# Altium footprint library Grid_Aux.PcbLib: 6 footprints
Each footprint in its own frame and in the unit in brackets; x right, y up, seen from the top. Pads: shape width x height; smd on the part's side, far side on the other; paste and mask are expansions set on the pad; w line width, h text height; cw(c..) or ccw(c..) is an arc to the next point about the centre after c.
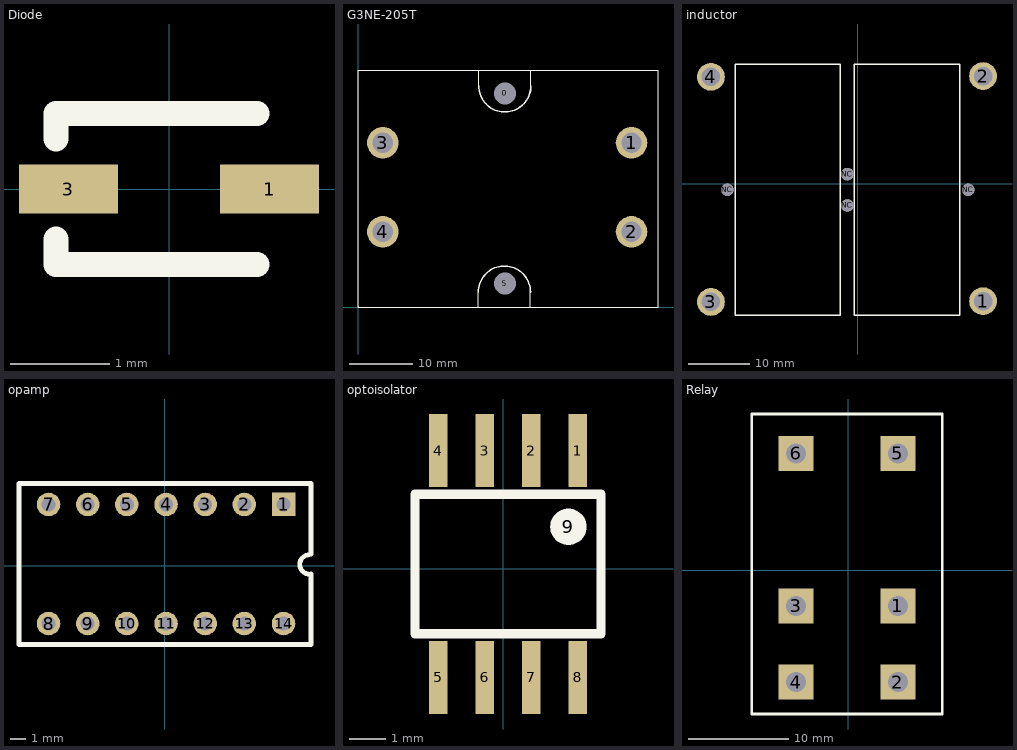
[diagram p0: the footprints below, top view; thin cyan lines are the x and y axes]

## Diode [mm]
pads (2):
  rect 1x0.5 smd: 1(1.016,0) 3(-1.016,0)
Top Overlay:
  lines w0.254: -1.143,-0.508 -1.143,-0.762 0.889,-0.762 ; -1.143,0.508 -1.143,0.762 0.889,0.762

## G3NE-205T [mm]
pads (6):
  round 1.524 hole 3.5: 0(23.25,33.85) 5(23.25,3.75)
  round 5 hole 3.24: 1(43.307,26.035) 2(43.307,11.938) 3(3.937,26.035) 4(3.937,11.938)
Top Overlay:
  lines w0.025: 0.127,0.127 0,0 ; 19.05,0 19.05,2.413 ; 19.113,35.052 19.113,37.436 ; 27.305,0 27.305,2.413 ; 27.369,35.052 27.369,37.436 ; 0,0 0,37.465 0.009,37.474 0.026,37.491 0.035,37.5 47.5,37.5 47.5,0 0,0
  lines w0.254: 19.05,2.413 cw(c23.177,2.403) 27.305,2.413 ; 19.113,35.052 ccw(c23.241,35.052) 27.369,35.052

## inductor [mm]
pads (8):
  round 4.5 hole 3: 1(20.32,-19.05) 2(20.32,17.399) 3(-23.749,-19.177) 4(-23.749,17.272)
  round 2 hole 2: NC(-21.082,-1.016) NC(-1.651,-3.556) NC(-1.651,1.524) NC(17.907,-1.016)
Top Overlay:
  lines w0.254: -19.812,-21.336 -19.812,19.304 -2.794,19.304 -2.794,-21.336 -19.812,-21.336 ; -0.508,-21.336 16.51,-21.336 16.51,19.304 -0.508,19.304 -0.508,-21.336

## opamp [mm]
pads (14):
  rect 1.5x1.5 hole 0.9: 1(7.575,3.91)
  round 1.5 hole 0.9: 2(5.075,3.91) 3(2.575,3.91) 4(0.075,3.91) 5(-2.425,3.91) 6(-4.925,3.91) 7(-7.425,3.91) 8(-7.425,-3.69) 9(-4.925,-3.69) 10(-2.425,-3.69) 11(0.075,-3.69) 12(2.575,-3.69) 13(5.075,-3.69) 14(7.575,-3.69)
Top Overlay:
  lines w0.3: 9.226,-0.535 cw(c9.226,0.08) 9.226,0.695 ; 9.333,-0.515 9.333,-5.03 -9.31,-5.03 -9.31,5.25 9.333,5.25 9.333,0.735

## optoisolator [mm]
pads (9):
  rect 0.5x2 smd: 1(2.032,3.227) 2(0.762,3.227) 3(-0.508,3.227) 4(-1.778,3.227) 5(-1.778,-2.973) 6(-0.508,-2.973) 7(0.762,-2.973) 8(2.032,-2.973)
  round 1 on Top Overlay: 9(1.778,1.143)
Top Overlay:
  lines w0.254: -2.413,-1.778 2.667,-1.778 2.667,2.032 -2.413,2.032 -2.413,-1.778

## Relay [mm]
pads (6):
  rect 3.5x3.5 hole 2: 1(4.953,-3.556) 2(4.953,-11.176) 3(-5.207,-3.556) 4(-5.207,-11.176) 5(4.953,11.684) 6(-5.207,11.684)
Top Overlay:
  lines w0.254: -9.652,-14.351 9.398,-14.351 9.398,15.621 -9.652,15.621 -9.652,-14.351